# Altium footprint library components.PcbLib: 1 footprints
Each footprint in its own frame and in the unit in brackets; x right, y up, seen from the top. Pads: shape width x height; smd on the part's side, far side on the other; paste and mask are expansions set on the pad; w line width, h text height; cw(c..) or ccw(c..) is an arc to the next point about the centre after c.
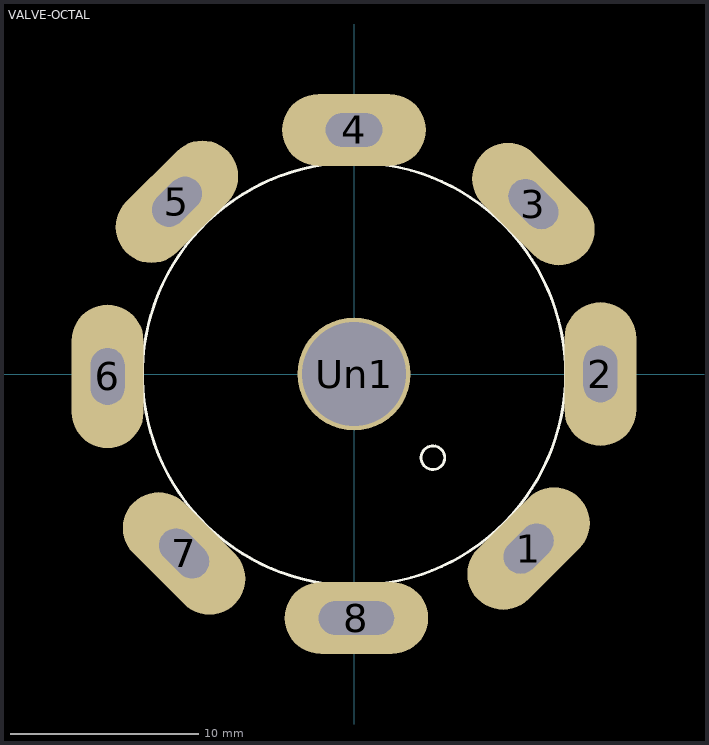
[diagram p0: the footprint, top view; thin cyan lines are the x and y axes]

## VALVE-OCTAL [mil]
pads (9):
  oval 150x300 hole 70.8 slot 118.11 at 45 deg rot 135: 1(365,-365) 5(-370,360)
  oval 150x300 hole 70.8 slot 118.11 at 90 deg: 2(515,0) 6(-515,-5)
  oval 150x300 hole 70.8 slot 118.11 at 135 deg rot 45: 3(375,355) 7(-355,-375)
  oval 300x150 hole 70.8 slot 118.11 at 0 deg: 4(0,510)
  oval 300x150 hole 70.8 slot 157.48 at 0 deg: 8(5,-510)
  round 236.2 hole 216.5: Un1(0,0)
F.SilkS:
  circle w5.91: c165,-175 r24.75
  circle w5.91: c0,0 r441.94
3D body "octal-socket.stp": height 688.98, standoff -200.79, extent -755.74,-755.74 755.74,755.74